# EAGLE library part 62000811121 (library Wuerth_Elektronik_eiCan_Pin_&_Socked_Headers_v1.3)
WR-PHD 2.00mm Pin Header, 8 Pins
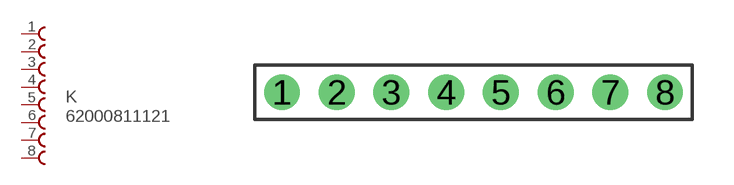
[diagram p266: symbol with the pads of 62000811121; footprint 62000811121]

Designator prefix K

## 62000811121  [62000811121]
1  1  pas
2  2  pas
3  3  pas
4  4  pas
5  5  pas
6  6  pas
7  7  pas
8  8  pas

## Footprint 62000811121 (pad centres in mm)
WR-PHD 2.00mm Pin Header, 8 Pins
drill 0.8 round: 1 -7,0; 2 -5,0; 3 -3,0; 4 -1,0; 5 1,0; 6 3,0; 7 5,0; 8 7,0